# EAGLE library part DOPPLER_V1 (library dadamachines-doppler)
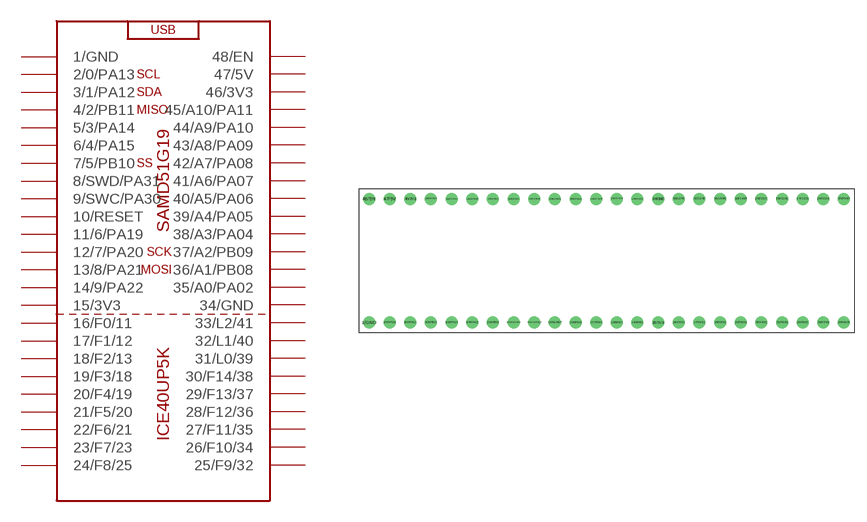
[diagram p0: symbol with the pads of DOPPLER_V1; footprint DOPPLER_V1]

Designator prefix ICESAMD

## DOPPLER_V1  [DOPPLER_V1]
1/GND  1/GND
2/0/PA13  2/0/PA13
3/1/PA12  3/1/PA12
4/2/PB11  4/2/PB11
5/3/PA14  5/3/PA14
6/4/PA15  6/4/PA15
7/5/PB10  7/5/PB10
8/SWDIO/PA31  8/SWD/PA31
9/SWCLK/PA30  9/SWC/PA30
10/RESET  10/RESET
11/6/PA19  11/6/PA19
12/7/PA20  12/7/PA20
13/8/PA21  13/8/PA21
14/9/PA22  14/9/PA22
15/3V3  15/3V3
16/F0/11  16/F0/11
17/F1/12  17/F1/12
18/F2/13  18/F2/13
19/F3/18  19/F3/18
20/F4/19  20/F4/19
21/F5/20  21/F5/20
22/F6/21  22/F6/21
23/F7/23  23/F7/23
24/F8/25  24/F8/25
25/F9/32  25/F9/32
26/F10/34  26/F10/34
27/F11/35  27/F11/35
28/F12/36  28/F12/36
29/F13/37  29/F13/37
30/F14/38  30/F14/38
31/L0/39  31/L0/39
32/L1/40  32/L1/40
33/L2/41  33/L2/41
34/GND  34/GND
35/A0/PA02  35/A0/PA02
36/A1//PB08  36/A1/PB08
37/A2/PB09  37/A2/PB09
38/A3/PA04  38/A3/PA04
39/A4/PA05  39/A4/PA05
40/A5/PA06  40/A5/PA06
41/A6/PA07  41/A6/PA07
42/A7/PA08  42/A7/PA08
43/A8/PA09  43/A8/PA09
44/A9/PA10  44/A9/PA10
45/A10/PA11  45/A10/PA11
46/3V3  46/3V3
47/5V  47/5V
48/EN  48/EN

## Footprint DOPPLER_V1 (pad centres in mm)
drill 0.965: 1/GND -27.94,-7.62; 2/0/PA13 -25.4,-7.62; 3/1/PA12 -22.86,-7.62; 4/2/PB11 -20.32,-7.62; 5/3/PA14 -17.78,-7.62; 6/4/PA15 -15.24,-7.62; 7/5/PB10 -12.7,-7.62; 8/SWDIO/PA31 -10.16,-7.62; 9/SWCLK/PA30 -7.62,-7.62; 10/RESET -5.08,-7.62; 11/6/PA19 -2.54,-7.62; 12/7/PA20 0,-7.62; 13/8/PA21 2.54,-7.62; 14/9/PA22 5.08,-7.62; 15/3V3 7.62,-7.62; 16/F0/11 10.16,-7.62; 17/F1/12 12.7,-7.62; 18/F2/13 15.24,-7.62; 19/F3/18 17.78,-7.62; 20/F4/19 20.32,-7.62; 21/F5/20 22.86,-7.62; 22/F6/21 25.4,-7.62; 23/F7/23 27.94,-7.62; 24/F8/25 30.48,-7.62; 25/F9/32 30.48,7.62; 26/F10/34 27.94,7.62; 27/F11/35 25.4,7.62; 28/F12/36 22.86,7.62; 29/F13/37 20.32,7.62; 30/F14/38 17.78,7.62; 31/L0/39 15.24,7.62; 32/L1/40 12.7,7.62; 33/L2/41 10.16,7.62; 34/GND 7.62,7.62; 35/A0/PA02 5.08,7.62; 36/A1//PB08 2.54,7.62; 37/A2/PB09 0,7.62; 38/A3/PA04 -2.54,7.62; 39/A4/PA05 -5.08,7.62; 40/A5/PA06 -7.62,7.62; 41/A6/PA07 -10.16,7.62; 42/A7/PA08 -12.7,7.62; 43/A8/PA09 -15.24,7.62; 44/A9/PA10 -17.78,7.62; 45/A10/PA11 -20.32,7.62; 46/3V3 -22.86,7.62; 47/5V -25.4,7.62; 48/EN -27.94,7.62